# Altium footprint library Resistor.PcbLib: 1 footprints
Each footprint in its own frame and in the unit in brackets; x right, y up, seen from the top. Pads: shape width x height; smd on the part's side, far side on the other; paste and mask are expansions set on the pad; w line width, h text height; cw(c..) or ccw(c..) is an arc to the next point about the centre after c.
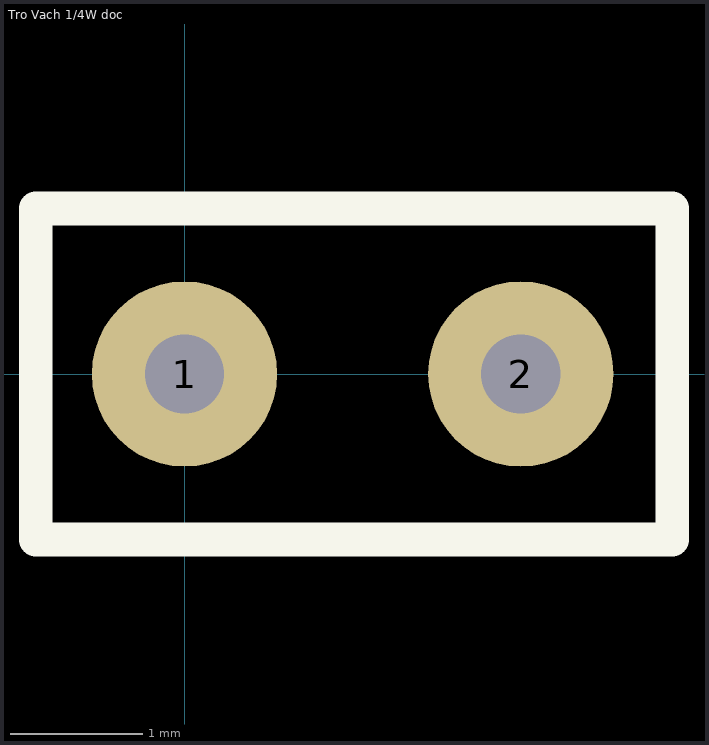
[diagram p0: the footprint, top view; thin cyan lines are the x and y axes]

## Tro Vach 1/4W doc [mm]
pads (2):
  round 1.4 hole 0.6: 1(0,0) 2(2.54,0)
Top Overlay:
  lines w0.254: -1.123,-1.25 -1.123,1.25 3.683,1.25 3.683,-1.25 -1.123,-1.25
3D body "Resistor TH vertical 2,54.stp": height 8.18, standoff -2, extent -1.147,-1.157 2.718,1.143